# EAGLE library part CONN5X2 (library Particle)
5x2 pin JTAG connector for Particle mesh dev kits
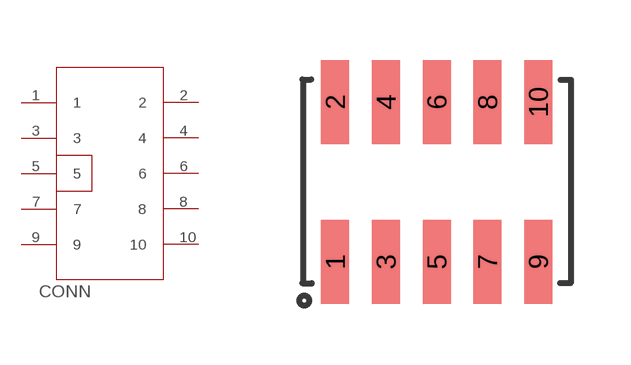
[diagram p41: symbol with the pads of CONN5X2_1.27; footprint CONN5X2_1.27]

Designator prefix CONN

## CONN5X2  [CONN5X2_1.27]
1  1
2  2
3  3
4  4
5  5
6  6
7  7
8  8
9  9
10  10

## Footprint CONN5X2_1.27 (pad centres in mm)
smd 0.7 x 2.1: 1 -2.54,-2; 2 -2.54,2; 3 -1.27,-2; 4 -1.27,2; 5 0,-2; 6 0,2; 7 1.27,-2; 8 1.27,2; 9 2.54,-2; 10 2.54,2